# EAGLE library part FTR-K1C (library relay)
NETZRELAIS FTR-K1CK024W1XUM 16A/250VAC 1 Umschaltkontakt Distributor: Conrad Electronic Bestell Nr.: 504389-13 - 24V Source: http://www.produktinfo.conrad.com/datenblaetter/500000-524999/504384-da-01-de-NETZRELAIS_FTR_K1CK012W1XUM_16A_250VAC.pdf
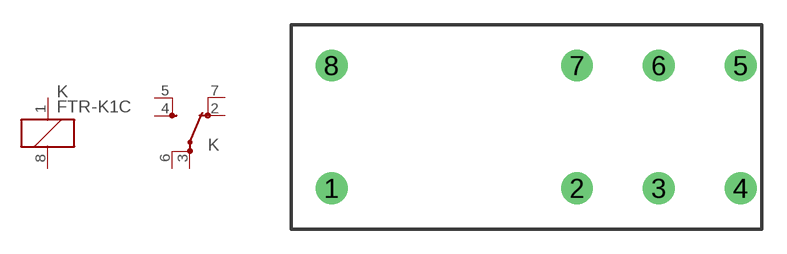
[diagram p141: symbol with the pads of FTR-K1C; footprint FTR-K1C]

Designator prefix K; gates K=K -1=U-X2

## FTR-K1C  [FTR-K1C]
1  K:1  pas
2  -1:OA  pas
3  -1:PA  pas
4  -1:SA  pas
5  -1:SB  pas
6  -1:PB  pas
7  -1:OB  pas
8  K:2  pas

## Footprint FTR-K1C (pad centres in mm)
Miniatur-Leistungsrelais 1 Wechsler Distributor: Conrad Electronic Source: http://www2.produktinfo.conrad.com/datenblaetter/500000-524999/504389-da-01-de-NETZRELAIS_FTR-K1CK024W1XUM_16A_250VAC.pdf
drill 1.3 pad 1.93: 1 -12.5,-3.75; 2 2.5,-3.75; 3 7.5,-3.75; 4 12.5,-3.75; 5 12.5,3.75; 6 7.5,3.75; 7 2.5,3.75; 8 -12.5,3.75